# EAGLE library part MOS6550 (library 65xxx)
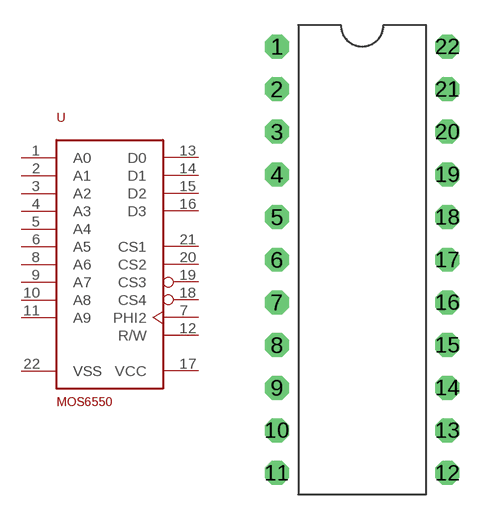
[diagram p0: symbol with the pads of DIP-22; footprint DIP-22]

Designator prefix -

## MOS6550  [DIP-22]
1  A0
2  A1
3  A2
4  A3
5  A4
6  A5
7  PHI2
8  A6
9  A7
10  A8
11  A9
12  R/W
13  D0
14  D1
15  D2
16  D3
17  VCC  pwr
18  CS4
19  CS3
20  CS2
21  CS1
22  VSS  pwr

## Footprint DIP-22 (pad centres in mm)
drill 0.813 pad 1.422 octagon: 1 -5.08,12.7; 2 -5.08,10.16; 3 -5.08,7.62; 4 -5.08,5.08; 5 -5.08,2.54; 6 -5.08,0; 7 -5.08,-2.54; 8 -5.08,-5.08; 9 -5.08,-7.62; 10 -5.08,-10.16; 11 -5.08,-12.7; 12 5.08,-12.7; 13 5.08,-10.16; 14 5.08,-7.62; 15 5.08,-5.08; 16 5.08,-2.54; 17 5.08,0; 18 5.08,2.54; 19 5.08,5.08; 20 5.08,7.62; 21 5.08,10.16; 22 5.08,12.7